# Altium schematic symbol library MCP2551-E_SN.SchLib: 1 symbol
Pins are listed as number, name and electrical type; pins without a type are passive.

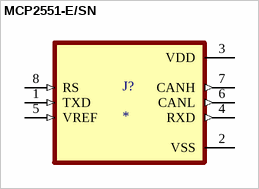
[diagram p0: symbol MCP2551-E/SN]

## MCP2551-E/SN
designator J?
1/1 Transceiver Half CANbus 8-SOIC; MP: MCP2551-E/SN; MF: Microchip; Check_prices: https://www.snapeda.com/parts/MCP2551-E/SN/Microchip/view-part/?ref=eda; Value: *; Availability: In Stock; Price: None; Package: SOIC-8 Microchip; SnapEDA_Link: https://www.snapeda.com/parts/MCP2551-E/SN/Microchip/view-part/?ref=snap; Purchase-URL: https://pricing.snapeda.com/search/part/MCP2551-E/SN/?ref=eda
footprint SOIC127P600X175-8N
pins: 1 TXD (in), 2 VSS (power), 3 VDD (power), 4 RXD (out), 5 VREF (in), 6 CANL (out), 7 CANH (out), 8 RS (in)